# EAGLE library part M09 (library custom-connectors)
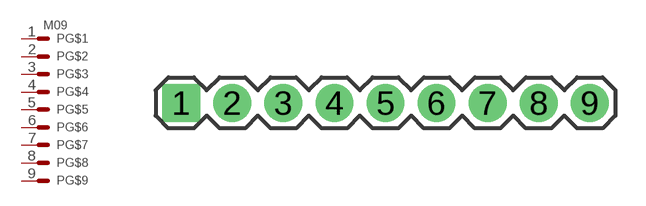
[diagram p24: symbol with the pads of 1X09_LOCK; footprint 1X09_LOCK]

Designator prefix P; gates G$1=MV G$2=M G$3=M G$4=M G$5=M G$6=M G$7=M G$8=M G$9=M

## M09  [1X09_LOCK]
1  G$1:S  pas
2  G$2:S  pas
3  G$3:S  pas
4  G$4:S  pas
5  G$5:S  pas
6  G$6:S  pas
7  G$7:S  pas
8  G$8:S  pas
9  G$9:S  pas

## Footprint 1X09_LOCK (pad centres in mm)
drill 1.016 pad 1.88 square: 1 -8.89,0
drill 1.016 pad 1.88: 2 -6.35,0; 3 -3.81,0; 4 -1.27,0; 5 1.27,0; 6 3.81,0; 7 6.35,0; 8 8.89,0; 9 11.43,0